# EAGLE library part SWITCH:ADG_19(SPDT) (library QuantumOptics)
ADG719/819, AnaDev, SPST switch, 1.8 to 5.5V supply, 200MHz. The 819 has better Rds specs. ADG719: http://www.analog.com/en/prod/0,,768_833_ADG719%2C00.html ADG819: http://www.analog.com/en/prod/0,,ADG819,00.html
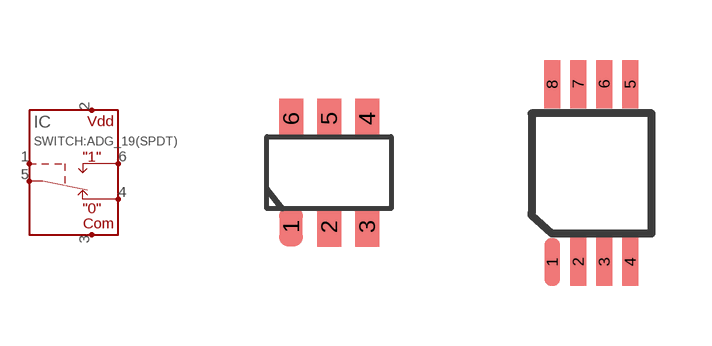
[diagram p72: symbol with the pads of SOT23-6; footprints SOT23-6, MSOP8]

Designator prefix IC

## SWITCH:ADG_19(SPDT)-SOT23-6  [SOT23-6]
1  SW  in
2  VDD
3  COM
4  NC
5  C
6  NO

## SWITCH:ADG_19(SPDT)-MSOP8  [MSOP8]
1  C
2  NC
3  COM
4  VDD
6  SW  in
8  NO

## Footprint SOT23-6 (pad centres in mm)
SOT-23 6-pin, on wonderful 0.95mm (~0.037") pad-pad spacing.
smd 0.6 x 1: 1 -0.95,-1.35; 2 0,-1.35; 3 0.95,-1.35; 4 0.95,1.35; 5 0,1.35; 6 -0.95,1.35

## Footprint MSOP8 (pad centres in mm)
MSOP-8, A.K.A. RM-8. Use 0.025" grid.
smd 0.4 x 1.2: 1 -0.65,-1.905; 2 0,-1.905; 3 0.65,-1.905; 4 1.3,-1.905; 5 1.3,2.54; 6 0.65,2.54; 7 0,2.54; 8 -0.65,2.54